# Altium footprint library QFN56.PcbLib: 1 footprints
Each footprint in its own frame and in the unit in brackets; x right, y up, seen from the top. Pads: shape width x height; smd on the part's side, far side on the other; paste and mask are expansions set on the pad; w line width, h text height; cw(c..) or ccw(c..) is an arc to the next point about the centre after c.
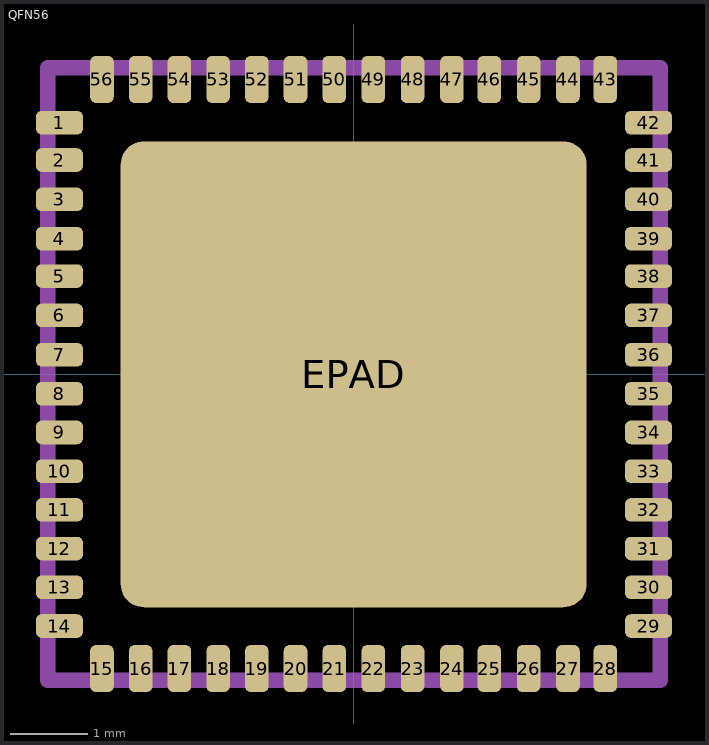
[diagram p0: the footprint, top view; thin cyan lines are the x and y axes]

## QFN56 [mil]
pads (57):
  rrect50% 24x12 smd: 1(-149.61,128) 2(-149.61,109) 3(-149.61,89) 4(-149.61,69) 5(-149.61,50) 6(-149.61,30) 7(-149.61,10) 8(-149.61,-9.84) 9(-149.61,-29.53) 10(-149.61,-49.21) 11(-149.61,-68.9) 12(-149.61,-88.58) 13(-149.61,-108.27) 14(-149.61,-127.95) 29(150,-127.95) 30(150,-108.27) 31(150,-88.58) 32(150,-68.9) 33(150,-49.21) 34(150,-29.53) 35(150,-9.84) 36(150,10) 37(150,30) 38(150,50) 39(150,69) 40(150,89) 41(150,109) 42(150,128)
  rrect50% 12x24 smd: 15(-127.95,-149.61) 16(-108.27,-149.61) 17(-88.58,-149.61) 18(-68.9,-149.61) 19(-49.21,-149.61) 20(-29.53,-149.61) 21(-9.84,-149.61) 22(10,-149.61) 23(30,-149.61) 24(50,-149.61) 25(69,-149.61) 26(89,-149.61) 27(109,-149.61) 28(128,-149.61) 43(128,150) 44(109,150) 45(89,150) 46(69,150) 47(50,150) 48(30,150) 49(10,150) 50(-9.84,150) 51(-29.53,150) 52(-49.21,150) 53(-68.9,150) 54(-88.58,150) 55(-108.27,150) 56(-127.95,150)
  rrect10% 237x237 smd: EPAD(0,0)
Top Solder:
  rectangle: -161.42,123 -137.8,134
  rectangle: -161.42,103 -137.8,115
  rectangle: -161.42,83 -137.8,95
  rectangle: -161.42,63 -137.8,75
  rectangle: -161.42,44 -137.8,56
  rectangle: -161.42,24 -137.8,36
  rectangle: -161.42,4 -137.8,16
  rectangle: -161.42,-15.75 -137.8,-3.94
  rectangle: -161.42,-35.43 -137.8,-23.62
  rectangle: -161.42,-55.12 -137.8,-43.31
  rectangle: -161.42,-74.8 -137.8,-62.99
  rectangle: -161.42,-94.49 -137.8,-82.68
  rectangle: -161.42,-114.17 -137.8,-102.36
  rectangle: -161.42,-133.86 -137.8,-122.05
  region: -122.05,-161.42 -122.05,-137.8 -133.86,-137.8 -133.86,-161.42
  region: -102.36,-161.42 -102.36,-137.8 -114.17,-137.8 -114.17,-161.42
  region: -82.68,-161.42 -82.68,-137.8 -94.49,-137.8 -94.49,-161.42
  region: -62.99,-161.42 -62.99,-137.8 -74.8,-137.8 -74.8,-161.42
  region: -43.31,-161.42 -43.31,-137.8 -55.12,-137.8 -55.12,-161.42
  region: -23.62,-161.42 -23.62,-137.8 -35.43,-137.8 -35.43,-161.42
  region: -3.92,-161.43 -3.92,-137.78 -15.73,-137.78 -15.73,-161.43
  region: 15.92,-161.59 15.92,-137.62 4.11,-137.62 4.11,-161.59
  region: 35.91,-161.61 35.91,-137.61 24.09,-137.61 24.09,-161.61
  region: 55.91,-161.61 55.91,-137.61 44.09,-137.61 44.09,-161.61
  region: 75.41,-161.11 75.41,-138.11 63.59,-138.11 63.59,-161.11
  region: 94.91,-161.61 94.91,-137.61 83.09,-137.61 83.09,-161.61
  region: 114.91,-161.61 114.91,-137.61 103.09,-137.61 103.09,-161.61
  region: 134.41,-161.11 134.41,-138.11 122.59,-138.11 122.59,-161.11
  region: 162,-122.05 138,-122.05 138,-133.86 162,-133.86
  region: 162,-102.36 138,-102.36 138,-114.17 162,-114.17
  region: 162,-82.68 138,-82.68 138,-94.49 162,-94.49
  region: 162,-62.99 138,-62.99 138,-74.8 162,-74.8
  region: 162,-43.31 138,-43.31 138,-55.12 162,-55.12
  region: 162,-23.62 138,-23.62 138,-35.43 162,-35.43
  region: 162,-3.94 138,-3.94 138,-15.75 162,-15.75
  region: 162,16 138,16 138,4 162,4
  region: 162,36 138,36 138,24 162,24
  region: 162,56 138,56 138,44 162,44
  region: 162,75 138,75 138,63 162,63
  region: 162,95 138,95 138,83 162,83
  region: 162,115 138,115 138,103 162,103
  region: 162,134 138,134 138,123 162,123
  region: 122.5,161.5 122.5,138.5 134.5,138.5 134.5,161.5
  region: 103,162 103,138 115,138 115,162
  region: 83,162 83,138 95,138 95,162
  region: 63.5,161.5 63.5,138.5 75.5,138.5 75.5,161.5
  region: 44,162 44,138 56,138 56,162
  region: 24,162 24,138 36,138 36,162
  region: 4.02,161.98 4.02,138.02 16.02,138.02 16.02,161.98
  region: -15.83,161.83 -15.83,138.17 -3.83,138.17 -3.83,161.83
  region: -35.53,161.81 -35.53,138.19 -23.53,138.19 -23.53,161.81
  region: -55.21,161.81 -55.21,138.19 -43.21,138.19 -43.21,161.81
  region: -74.9,161.81 -74.9,138.19 -62.9,138.19 -62.9,161.81
  region: -94.58,161.81 -94.58,138.19 -82.58,138.19 -82.58,161.81
  region: -114.27,161.81 -114.27,138.19 -102.27,138.19 -102.27,161.81
  region: -133.95,161.81 -133.95,138.19 -121.95,138.19 -121.95,161.81
  rectangle: -116.14,-116.14 117,117
Mechanical 2:
  text "LAN9500" at -77.17,-7.48 h49.6
Mechanical 16:
  lines w8: -155.51,-155.51 156,-155.51 156,156 -155.51,156 -155.51,-155.51